# Altium footprint library INDPM235220X1300N.PcbLib: 1 footprints
Each footprint in its own frame and in the unit in brackets; x right, y up, seen from the top. Pads: shape width x height; smd on the part's side, far side on the other; paste and mask are expansions set on the pad; w line width, h text height; cw(c..) or ccw(c..) is an arc to the next point about the centre after c.
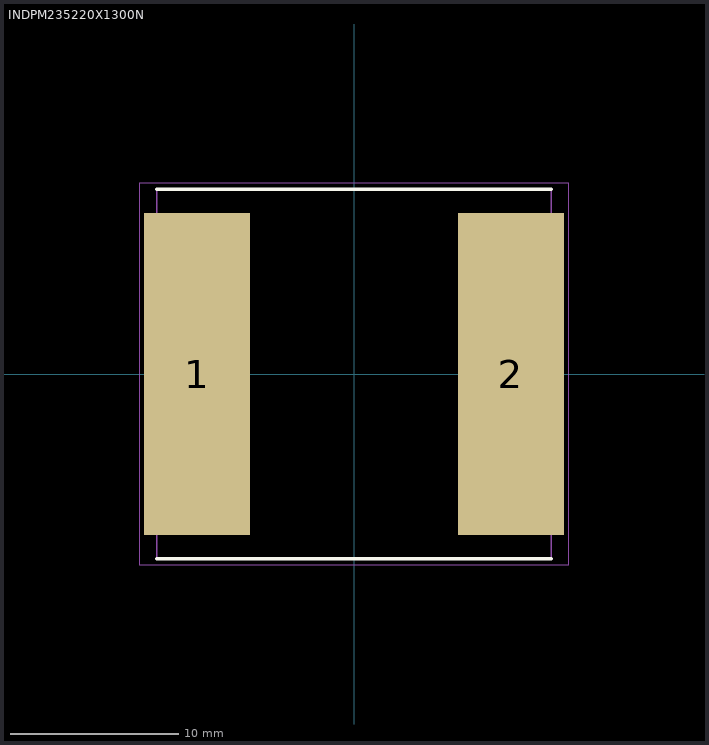
[diagram p0: the footprint, top view; thin cyan lines are the x and y axes]

## INDPM235220X1300N [mm]
pads (2):
  rect 6.3x19.2 smd: 1(-9.35,0) 2(9.35,0)
Top Overlay:
  lines w0.2: -11.75,-11 11.75,-11 ; -11.75,11 11.75,11
Mechanical 15:
  lines w0.1: -11.75,-11 11.75,-11 11.75,11 -11.75,11 -11.75,-11
Mechanical 20:
  lines w0.05: -12.75,-11.4 12.75,-11.4 12.75,11.4 -12.75,11.4 -12.75,-11.4